# Altium footprint library Capacitor_THT.PcbLib: 378 footprints (part 20 of 24)
Each footprint in its own frame and in the unit in brackets; x right, y up, seen from the top. Pads: shape width x height; smd on the part's side, far side on the other; paste and mask are expansions set on the pad; w line width, h text height; cw(c..) or ccw(c..) is an arc to the next point about the centre after c.
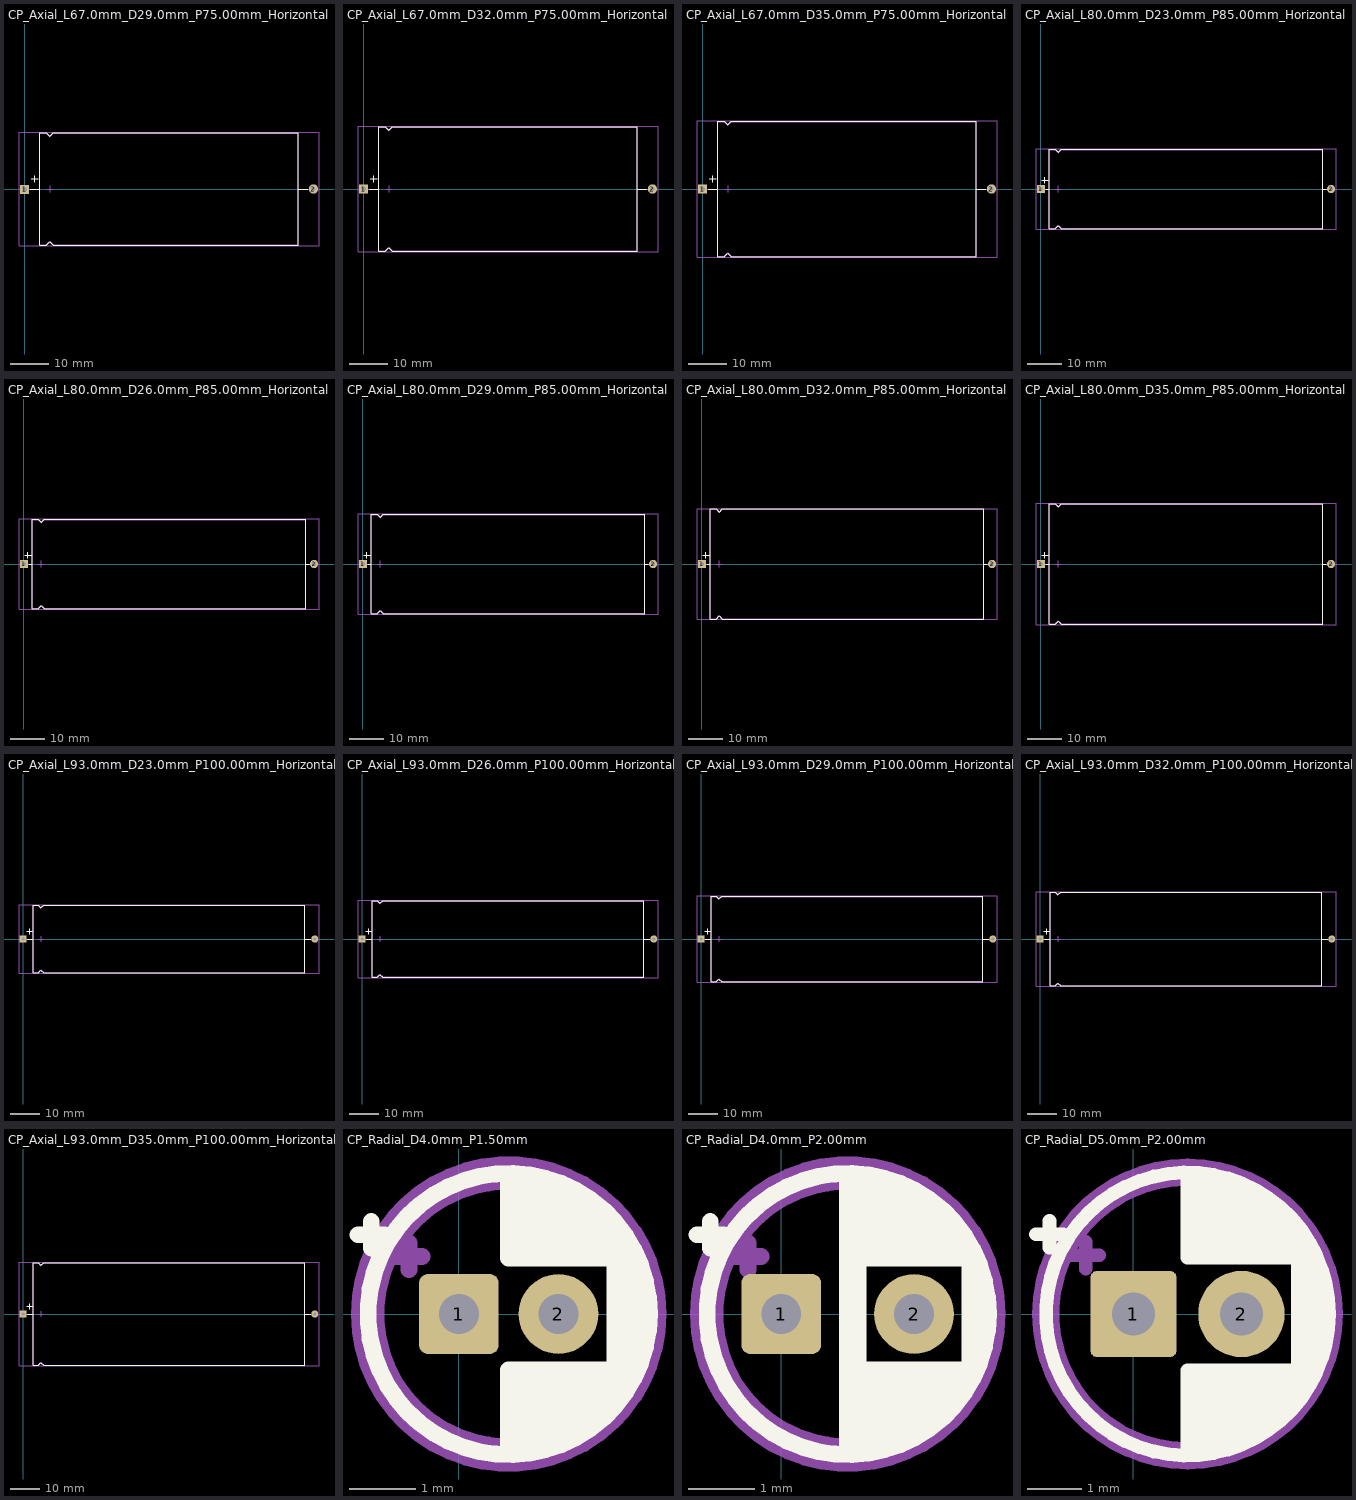
[diagram p19: the footprints below, top view; thin cyan lines are the x and y axes]

## CP_Axial_L67.0mm_D29.0mm_P75.00mm_Horizontal [mm] "CP_Axial_L67.0mm_D29.0mm_P75.00mm_Horizontal"
pads (2):
  rrect10% 2.4x2.4 hole 1.2: 1(0,-0.127)
  round 2.4 hole 1.2: 2(75,0)
F.SilkS:
  lines w0.254: 1.44,0 3.88,0 ; 1.78,2.6 3.58,2.6 ; 2.68,1.7 2.68,3.5 ; 71.12,0 73.56,0 ; 3.88,-14.62 3.88,14.62 5.68,14.62 6.58,13.72 7.48,14.62 71.12,14.62 71.12,-14.62 7.48,-14.62 6.58,-13.72 5.68,-14.62 3.88,-14.62
Top Component Center:
  lines w0.127: -0.127,0 0.127,0 ; 0,-0.127 0,0.127
Top Assembly:
  lines w0.254: 0,0 4,0 ; 5.7,0 7.5,0 ; 6.6,-0.9 6.6,0.9 ; 71,0 75,0 ; 4,-14.5 4,14.5 5.68,14.5 6.58,13.6 7.48,14.5 71,14.5 71,-14.5 7.48,-14.5 6.58,-13.6 5.68,-14.5 4,-14.5
Top Courtyard:
  lines w0.254: -1.45,-14.75 -1.45,14.75 76.45,14.75 76.45,-14.75 -1.45,-14.75
Top Designator:
  text ".Designator" at 35.428,-0.472 h1.52
3D body "CP_Axial_L67.0mm_D29.0mm_P75.00mm_Horizontal.step": height 29.01, standoff -2, extent -0.447,-14.497 75.447,14.497

## CP_Axial_L67.0mm_D32.0mm_P75.00mm_Horizontal [mm] "CP_Axial_L67.0mm_D32.0mm_P75.00mm_Horizontal"
pads (2):
  rrect10% 2.4x2.4 hole 1.2: 1(0,0)
  round 2.4 hole 1.2: 2(75,0)
F.SilkS:
  lines w0.254: 1.44,0 3.88,0 ; 1.78,2.6 3.58,2.6 ; 2.68,1.7 2.68,3.5 ; 71.12,0 73.56,0 ; 3.88,-16.12 3.88,16.12 5.68,16.12 6.58,15.22 7.48,16.12 71.12,16.12 71.12,-16.12 7.48,-16.12 6.58,-15.22 5.68,-16.12 3.88,-16.12
Top Component Center:
  lines w0.127: -0.127,0 0.127,0 ; 0,-0.127 0,0.127
Top Assembly:
  lines w0.254: 0,0 4,0 ; 5.7,0 7.5,0 ; 6.6,-0.9 6.6,0.9 ; 71,0 75,0 ; 4,-16 4,16 5.68,16 6.58,15.1 7.48,16 71,16 71,-16 7.48,-16 6.58,-15.1 5.68,-16 4,-16
Top Courtyard:
  lines w0.254: -1.45,-16.25 -1.45,16.25 76.45,16.25 76.45,-16.25 -1.45,-16.25
Top Designator:
  text ".Designator" at 32.126,0.036 h1.52
3D body "CP_Axial_L67.0mm_D32.0mm_P75.00mm_Horizontal.step": height 32.01, standoff -2, extent -0.447,-15.997 75.447,16

## CP_Axial_L67.0mm_D35.0mm_P75.00mm_Horizontal [mm] "CP_Axial_L67.0mm_D35.0mm_P75.00mm_Horizontal"
pads (2):
  rrect10% 2.4x2.4 hole 1.2: 1(0,0)
  round 2.4 hole 1.2: 2(75,0)
F.SilkS:
  lines w0.254: 1.44,0 3.88,0 ; 1.78,2.6 3.58,2.6 ; 2.68,1.7 2.68,3.5 ; 71.12,0 73.56,0 ; 3.88,-17.62 3.88,17.62 5.68,17.62 6.58,16.72 7.48,17.62 71.12,17.62 71.12,-17.62 7.48,-17.62 6.58,-16.72 5.68,-17.62 3.88,-17.62
Top Component Center:
  lines w0.127: -0.127,0 0.127,0 ; 0,-0.127 0,0.127
Top Assembly:
  lines w0.254: 0,0 4,0 ; 5.7,0 7.5,0 ; 6.6,-0.9 6.6,0.9 ; 71,0 75,0 ; 4,-17.5 4,17.5 5.68,17.5 6.58,16.6 7.48,17.5 71,17.5 71,-17.5 7.48,-17.5 6.58,-16.6 5.68,-17.5 4,-17.5
Top Courtyard:
  lines w0.254: -1.45,-17.75 -1.45,17.75 76.45,17.75 76.45,-17.75 -1.45,-17.75
Top Designator:
  text ".Designator" at 35.174,-0.345 h1.52
3D body "CP_Axial_L67.0mm_D35.0mm_P75.00mm_Horizontal.step": height 35.01, standoff -2, extent -0.447,-17.5 75.447,17.5

## CP_Axial_L80.0mm_D23.0mm_P85.00mm_Horizontal [mm] "CP_Axial_L80.0mm_D23.0mm_P85.00mm_Horizontal"
pads (2):
  rrect10% 2.4x2.4 hole 1.2: 1(0,0)
  round 2.4 hole 1.2: 2(85,0)
F.SilkS:
  lines w0.254: 0.28,2.6 2.08,2.6 ; 1.18,1.7 1.18,3.5 ; 1.44,0 2.38,0 ; 82.62,0 83.56,0 ; 2.38,-11.62 2.38,11.62 4.18,11.62 5.08,10.72 5.98,11.62 82.62,11.62 82.62,-11.62 5.98,-11.62 5.08,-10.72 4.18,-11.62 2.38,-11.62
Top Component Center:
  lines w0.127: -0.127,0 0.127,0 ; 0,-0.127 0,0.127
Top Assembly:
  lines w0.254: 0,0 2.5,0 ; 4.2,0 6,0 ; 5.1,-0.9 5.1,0.9 ; 82.5,0 85,0 ; 2.5,-11.5 2.5,11.5 4.18,11.5 5.08,10.6 5.98,11.5 82.5,11.5 82.5,-11.5 5.98,-11.5 5.08,-10.6 4.18,-11.5 2.5,-11.5
Top Courtyard:
  lines w0.254: -1.45,-11.75 -1.45,11.75 86.45,11.75 86.45,-11.75 -1.45,-11.75
Top Designator:
  text ".Designator" at 38.857,-0.091 h1.52
3D body "CP_Axial_L80.0mm_D23.0mm_P85.00mm_Horizontal.step": height 23.01, standoff -2, extent -0.447,-11.497 85.447,11.497

## CP_Axial_L80.0mm_D26.0mm_P85.00mm_Horizontal [mm] "CP_Axial_L80.0mm_D26.0mm_P85.00mm_Horizontal"
pads (2):
  rrect10% 2.4x2.4 hole 1.2: 1(0,0)
  round 2.4 hole 1.2: 2(85,0)
F.SilkS:
  lines w0.254: 0.28,2.6 2.08,2.6 ; 1.18,1.7 1.18,3.5 ; 1.44,0 2.38,0 ; 82.62,0 83.56,0 ; 2.38,-13.12 2.38,13.12 4.18,13.12 5.08,12.22 5.98,13.12 82.62,13.12 82.62,-13.12 5.98,-13.12 5.08,-12.22 4.18,-13.12 2.38,-13.12
Top Component Center:
  lines w0.127: -0.127,0 0.127,0 ; 0,-0.127 0,0.127
Top Assembly:
  lines w0.254: 0,0 2.5,0 ; 4.2,0 6,0 ; 5.1,-0.9 5.1,0.9 ; 82.5,0 85,0 ; 2.5,-13 2.5,13 4.18,13 5.08,12.1 5.98,13 82.5,13 82.5,-13 5.98,-13 5.08,-12.1 4.18,-13 2.5,-13
Top Courtyard:
  lines w0.254: -1.45,-13.25 -1.45,13.25 86.45,13.25 86.45,-13.25 -1.45,-13.25
Top Designator:
  text ".Designator" at 39.746,-0.472 h1.52
3D body "CP_Axial_L80.0mm_D26.0mm_P85.00mm_Horizontal.step": height 26.01, standoff -2, extent -0.447,-13 85.447,12.986

## CP_Axial_L80.0mm_D29.0mm_P85.00mm_Horizontal [mm] "CP_Axial_L80.0mm_D29.0mm_P85.00mm_Horizontal"
pads (2):
  rrect10% 2.4x2.4 hole 1.2: 1(0,0)
  round 2.4 hole 1.2: 2(85,0)
F.SilkS:
  lines w0.254: 0.28,2.6 2.08,2.6 ; 1.18,1.7 1.18,3.5 ; 1.44,0 2.38,0 ; 82.62,0 83.56,0 ; 2.38,-14.62 2.38,14.62 4.18,14.62 5.08,13.72 5.98,14.62 82.62,14.62 82.62,-14.62 5.98,-14.62 5.08,-13.72 4.18,-14.62 2.38,-14.62
Top Component Center:
  lines w0.127: -0.127,0 0.127,0 ; 0,-0.127 0,0.127
Top Assembly:
  lines w0.254: 0,0 2.5,0 ; 4.2,0 6,0 ; 5.1,-0.9 5.1,0.9 ; 82.5,0 85,0 ; 2.5,-14.5 2.5,14.5 4.18,14.5 5.08,13.6 5.98,14.5 82.5,14.5 82.5,-14.5 5.98,-14.5 5.08,-13.6 4.18,-14.5 2.5,-14.5
Top Courtyard:
  lines w0.254: -1.45,-14.75 -1.45,14.75 86.45,14.75 86.45,-14.75 -1.45,-14.75
Top Designator:
  text ".Designator" at 42.794,0.163 h1.52
3D body "CP_Axial_L80.0mm_D29.0mm_P85.00mm_Horizontal.step": height 29.01, standoff -2, extent -0.447,-14.486 85.447,14.5

## CP_Axial_L80.0mm_D32.0mm_P85.00mm_Horizontal [mm] "CP_Axial_L80.0mm_D32.0mm_P85.00mm_Horizontal"
pads (2):
  rrect10% 2.4x2.4 hole 1.2: 1(0,0)
  round 2.4 hole 1.2: 2(85,0)
F.SilkS:
  lines w0.254: 0.28,2.6 2.08,2.6 ; 1.18,1.7 1.18,3.5 ; 1.44,0 2.38,0 ; 82.62,0 83.56,0 ; 2.38,-16.12 2.38,16.12 4.18,16.12 5.08,15.22 5.98,16.12 82.62,16.12 82.62,-16.12 5.98,-16.12 5.08,-15.22 4.18,-16.12 2.38,-16.12
Top Component Center:
  lines w0.127: -0.127,0 0.127,0 ; 0,-0.127 0,0.127
Top Assembly:
  lines w0.254: 0,0 2.5,0 ; 4.2,0 6,0 ; 5.1,-0.9 5.1,0.9 ; 82.5,0 85,0 ; 2.5,-16 2.5,16 4.18,16 5.08,15.1 5.98,16 82.5,16 82.5,-16 5.98,-16 5.08,-15.1 4.18,-16 2.5,-16
Top Courtyard:
  lines w0.254: -1.45,-16.25 -1.45,16.25 86.45,16.25 86.45,-16.25 -1.45,-16.25
Top Designator:
  text ".Designator" at 40.508,-0.472 h1.52
3D body "CP_Axial_L80.0mm_D32.0mm_P85.00mm_Horizontal.step": height 32.01, standoff -2, extent -0.447,-15.997 85.447,15.997

## CP_Axial_L80.0mm_D35.0mm_P85.00mm_Horizontal [mm] "CP_Axial_L80.0mm_D35.0mm_P85.00mm_Horizontal"
pads (2):
  rrect10% 2.4x2.4 hole 1.2: 1(0,0)
  round 2.4 hole 1.2: 2(85,0)
F.SilkS:
  lines w0.254: 0.28,2.6 2.08,2.6 ; 1.18,1.7 1.18,3.5 ; 1.44,0 2.38,0 ; 82.62,0 83.56,0 ; 2.38,-17.62 4.18,-17.62 5.08,-16.72 5.98,-17.62 82.62,-17.62 82.62,17.62 5.98,17.62 5.08,16.72 4.18,17.62 2.38,17.62 2.38,-17.62
Top Component Center:
  lines w0.127: -0.127,0 0.127,0 ; 0,-0.127 0,0.127
Top Assembly:
  lines w0.254: 0,0 2.5,0 ; 4.2,0 6,0 ; 5.1,-0.9 5.1,0.9 ; 82.5,0 85,0 ; 2.5,-17.5 4.18,-17.5 5.08,-16.6 5.98,-17.5 82.5,-17.5 82.5,17.5 5.98,17.5 5.08,16.6 4.18,17.5 2.5,17.5 2.5,-17.5
Top Courtyard:
  lines w0.254: -1.45,-17.75 86.45,-17.75 86.45,17.75 -1.45,17.75 -1.45,-17.75
Top Designator:
  text ".Designator" at 41.651,-0.218 h1.52
3D body "CP_Axial_L80.0mm_D35.0mm_P85.00mm_Horizontal.step": height 35.01, standoff -2, extent -0.447,-17.482 85.447,17.498

## CP_Axial_L93.0mm_D23.0mm_P100.00mm_Horizontal [mm] "CP_Axial_L93.0mm_D23.0mm_P100.00mm_Horizontal"
pads (2):
  rrect10% 2.4x2.4 hole 1.2: 1(0,0)
  round 2.4 hole 1.2: 2(100,0)
F.SilkS:
  lines w0.254: 1.28,2.6 3.08,2.6 ; 1.44,0 3.38,0 ; 2.18,1.7 2.18,3.5 ; 96.62,0 98.56,0 ; 3.38,-11.62 5.18,-11.62 6.08,-10.72 6.98,-11.62 96.62,-11.62 96.62,11.62 6.98,11.62 6.08,10.72 5.18,11.62 3.38,11.62 3.38,-11.62
Top Component Center:
  lines w0.127: -0.127,0 0.127,0 ; 0,-0.127 0,0.127
Top Assembly:
  lines w0.254: 0,0 3.5,0 ; 5.2,0 7,0 ; 6.1,-0.9 6.1,0.9 ; 96.5,0 100,0 ; 3.5,-11.5 5.18,-11.5 6.08,-10.6 6.98,-11.5 96.5,-11.5 96.5,11.5 6.98,11.5 6.08,10.6 5.18,11.5 3.5,11.5 3.5,-11.5
Top Courtyard:
  lines w0.254: -1.45,-11.75 101.45,-11.75 101.45,11.75 -1.45,11.75 -1.45,-11.75
Top Designator:
  text ".Designator" at 46.985,-0.091 h1.52
3D body "CP_Axial_L93.0mm_D23.0mm_P100.00mm_Horizontal.step": height 23.01, standoff -2, extent -0.447,-11.475 100.447,11.465

## CP_Axial_L93.0mm_D26.0mm_P100.00mm_Horizontal [mm] "CP_Axial_L93.0mm_D26.0mm_P100.00mm_Horizontal"
pads (2):
  rrect10% 2.4x2.4 hole 1.2: 1(0,0)
  round 2.4 hole 1.2: 2(100,0)
F.SilkS:
  lines w0.254: 1.28,2.6 3.08,2.6 ; 1.44,0 3.38,0 ; 2.18,1.7 2.18,3.5 ; 96.62,0 98.56,0 ; 3.38,-13.12 5.18,-13.12 6.08,-12.22 6.98,-13.12 96.62,-13.12 96.62,13.12 6.98,13.12 6.08,12.22 5.18,13.12 3.38,13.12 3.38,-13.12
Top Component Center:
  lines w0.127: -0.127,0 0.127,0 ; 0,-0.127 0,0.127
Top Assembly:
  lines w0.254: 0,0 3.5,0 ; 5.2,0 7,0 ; 6.1,-0.9 6.1,0.9 ; 96.5,0 100,0 ; 3.5,-13 5.18,-13 6.08,-12.1 6.98,-13 96.5,-13 96.5,13 6.98,13 6.08,12.1 5.18,13 3.5,13 3.5,-13
Top Courtyard:
  lines w0.254: -1.45,-13.25 101.45,-13.25 101.45,13.25 -1.45,13.25 -1.45,-13.25
Top Designator:
  text ".Designator" at 58.542,-0.345 h1.52
3D body "CP_Axial_L93.0mm_D26.0mm_P100.00mm_Horizontal.step": height 26.01, standoff -2, extent -0.447,-12.998 100.447,12.999

## CP_Axial_L93.0mm_D29.0mm_P100.00mm_Horizontal [mm] "CP_Axial_L93.0mm_D29.0mm_P100.00mm_Horizontal"
pads (2):
  rrect10% 2.4x2.4 hole 1.2: 1(0,0)
  round 2.4 hole 1.2: 2(100,0)
F.SilkS:
  lines w0.254: 1.28,2.6 3.08,2.6 ; 1.44,0 3.38,0 ; 2.18,1.7 2.18,3.5 ; 96.62,0 98.56,0 ; 3.38,-14.62 5.18,-14.62 6.08,-13.72 6.98,-14.62 96.62,-14.62 96.62,14.62 6.98,14.62 6.08,13.72 5.18,14.62 3.38,14.62 3.38,-14.62
Top Component Center:
  lines w0.127: -0.127,0 0.127,0 ; 0,-0.127 0,0.127
Top Assembly:
  lines w0.254: 0,0 3.5,0 ; 5.2,0 7,0 ; 6.1,-0.9 6.1,0.9 ; 96.5,0 100,0 ; 3.5,-14.5 5.18,-14.5 6.08,-13.6 6.98,-14.5 96.5,-14.5 96.5,14.5 6.98,14.5 6.08,13.6 5.18,14.5 3.5,14.5 3.5,-14.5
Top Courtyard:
  lines w0.254: -1.45,-14.75 101.45,-14.75 101.45,14.75 -1.45,14.75 -1.45,-14.75
Top Designator:
  text ".Designator" at 45.207,-0.218 h1.52
3D body "CP_Axial_L93.0mm_D29.0mm_P100.00mm_Horizontal.step": height 29.01, standoff -2, extent -0.447,-14.499 100.447,14.499

## CP_Axial_L93.0mm_D32.0mm_P100.00mm_Horizontal [mm] "CP_Axial_L93.0mm_D32.0mm_P100.00mm_Horizontal"
pads (2):
  rrect10% 2.4x2.4 hole 1.2: 1(0,0)
  round 2.4 hole 1.2: 2(100,0)
F.SilkS:
  lines w0.254: 1.28,2.6 3.08,2.6 ; 1.44,0 3.38,0 ; 2.18,1.7 2.18,3.5 ; 96.62,0 98.56,0 ; 3.38,-16.12 3.38,16.12 5.18,16.12 6.08,15.22 6.98,16.12 96.62,16.12 96.62,-16.12 6.98,-16.12 6.08,-15.22 5.18,-16.12 3.38,-16.12
Top Component Center:
  lines w0.127: -0.127,0 0.127,0 ; 0,-0.127 0,0.127
Top Assembly:
  lines w0.254: 0,0 3.5,0 ; 5.2,0 7,0 ; 6.1,-0.9 6.1,0.9 ; 96.5,0 100,0 ; 3.5,-16 3.5,16 5.18,16 6.08,15.1 6.98,16 96.5,16 96.5,-16 6.98,-16 6.08,-15.1 5.18,-16 3.5,-16
Top Courtyard:
  lines w0.254: -1.45,-16.25 -1.45,16.25 101.45,16.25 101.45,-16.25 -1.45,-16.25
Top Designator:
  text ".Designator" at 47.112,-0.091 h1.52
3D body "CP_Axial_L93.0mm_D32.0mm_P100.00mm_Horizontal.step": height 32.01, standoff -2, extent -0.447,-15.966 100.447,15.993

## CP_Axial_L93.0mm_D35.0mm_P100.00mm_Horizontal [mm] "CP_Axial_L93.0mm_D35.0mm_P100.00mm_Horizontal"
pads (2):
  rrect10% 2.4x2.4 hole 1.2: 1(0,0)
  round 2.4 hole 1.2: 2(100,0)
F.SilkS:
  lines w0.254: 1.28,2.6 3.08,2.6 ; 1.44,0 3.38,0 ; 2.18,1.7 2.18,3.5 ; 96.62,0 98.56,0 ; 3.38,-17.62 5.18,-17.62 6.08,-16.72 6.98,-17.62 96.62,-17.62 96.62,17.62 6.98,17.62 6.08,16.72 5.18,17.62 3.38,17.62 3.38,-17.62
Top Component Center:
  lines w0.127: -0.127,0 0.127,0 ; 0,-0.127 0,0.127
Top Assembly:
  lines w0.254: 0,0 3.5,0 ; 5.2,0 7,0 ; 6.1,-0.9 6.1,0.9 ; 96.5,0 100,0 ; 3.5,-17.5 5.18,-17.5 6.08,-16.6 6.98,-17.5 96.5,-17.5 96.5,17.5 6.98,17.5 6.08,16.6 5.18,17.5 3.5,17.5 3.5,-17.5
Top Courtyard:
  lines w0.254: -1.45,-17.75 101.45,-17.75 101.45,17.75 -1.45,17.75 -1.45,-17.75
Top Designator:
  text ".Designator" at 47.747,-0.472 h1.52
3D body "CP_Axial_L93.0mm_D35.0mm_P100.00mm_Horizontal.step": height 35.01, standoff -2, extent -0.447,-17.499 100.447,17.499

## CP_Radial_D4.0mm_P1.50mm [mm] "CP_Radial_D4.0mm_P1.50mm"
pads (2):
  rrect21% 1.2x1.2 hole 0.6: 1(0,0)
  round 1.2 hole 0.6: 2(1.5,0)
F.SilkS:
  circle w0.254: c0.75,0 r2.12
  lines w0.254: -1.52,1.195 -1.12,1.195 ; -1.32,0.995 -1.32,1.395 ; 0.75,-2.08 0.75,-0.84 ; 0.75,0.84 0.75,2.08 ; 0.79,-2.08 0.79,-0.84 ; 0.79,0.84 0.79,2.08 ; 0.83,-2.078 0.83,-0.84 ; 0.83,0.84 0.83,2.078 ; 0.87,-2.077 0.87,-0.84 ; 0.87,0.84 0.87,2.077 ; 0.91,-2.074 0.91,-0.84 ; 0.91,0.84 0.91,2.074 ; 0.95,-2.071 0.95,-0.84 ; 0.95,0.84 0.95,2.071 ; 0.99,-2.066 0.99,-0.84 ; 0.99,0.84 0.99,2.066 ; 1.03,-2.061 1.03,-0.84 ; 1.03,0.84 1.03,2.061 ; 1.07,-2.056 1.07,-0.84 ; 1.07,0.84 1.07,2.056 ; 1.11,-2.049 1.11,-0.84 ; 1.11,0.84 1.11,2.049 ; 1.15,-2.042 1.15,-0.84 ; 1.15,0.84 1.15,2.042 ; 1.19,-2.034 1.19,-0.84 ; 1.19,0.84 1.19,2.034 ; 1.23,-2.025 1.23,-0.84 ; 1.23,0.84 1.23,2.025 ; 1.27,-2.015 1.27,-0.84 ; 1.27,0.84 1.27,2.015 ; 1.31,-2.005 1.31,-0.84 ; 1.31,0.84 1.31,2.005 ; 1.35,-1.993 1.35,-0.84 ; 1.35,0.84 1.35,1.993 ; 1.39,-1.981 1.39,-0.84 ; 1.39,0.84 1.39,1.981 ; 1.43,-1.968 1.43,-0.84 ; 1.43,0.84 1.43,1.968 ; 1.47,-1.954 1.47,-0.84 ; 1.47,0.84 1.47,1.954 ; 1.51,-1.939 1.51,-0.84 ; 1.51,0.84 1.51,1.939 ; 1.55,-1.923 1.55,-0.84 ; 1.55,0.84 1.55,1.923 ; 1.59,-1.906 1.59,-0.84 ; 1.59,0.84 1.59,1.906 ; 1.63,-1.889 1.63,-0.84 ; 1.63,0.84 1.63,1.889 ; 1.67,-1.87 1.67,-0.84 ; 1.67,0.84 1.67,1.87 ; 1.71,-1.85 1.71,-0.84 ; 1.71,0.84 1.71,1.85 ; 1.75,-1.829 1.75,-0.84 ; 1.75,0.84 1.75,1.829 ; 1.79,-1.807 1.79,-0.84 ; 1.79,0.84 1.79,1.807 ; 1.83,-1.784 1.83,-0.84 ; 1.83,0.84 1.83,1.784 ; 1.87,-1.76 1.87,-0.84 ; 1.87,0.84 1.87,1.76 ; 1.91,-1.734 1.91,-0.84 ; 1.91,0.84 1.91,1.734 ; 1.95,-1.708 1.95,-0.84 ; 1.95,0.84 1.95,1.708 ; 1.99,-1.68 1.99,-0.84 ; 1.99,0.84 1.99,1.68 ; 2.03,-1.65 2.03,-0.84 ; 2.03,0.84 2.03,1.65 ; 2.07,-1.619 2.07,-0.84 ; 2.07,0.84 2.07,1.619 ; 2.11,-1.586 2.11,-0.84 ; 2.11,0.84 2.11,1.586 ; 2.15,-1.552 2.15,-0.84 ; 2.15,0.84 2.15,1.552 ; 2.19,-1.516 2.19,-0.84 ; 2.19,0.84 2.19,1.516 ; 2.23,-1.478 2.23,-0.84 ; 2.23,0.84 2.23,1.478 ; 2.27,-1.438 2.27,-0.84 ; 2.27,0.84 2.27,1.438 ; 2.31,-1.396 2.31,-0.84 ; 2.31,0.84 2.31,1.396 ; 2.35,-1.351 2.35,1.351 ; 2.39,-1.303 2.39,1.303 ; 2.43,-1.253 2.43,1.253 ; 2.47,-1.199 2.47,1.199 ; 2.51,-1.142 2.51,1.142 ; 2.55,-1.08 2.55,1.08 ; 2.59,-1.013 2.59,1.013 ; 2.63,-0.94 2.63,0.94 ; 2.67,-0.859 2.67,0.859 ; 2.71,-0.768 2.71,0.768 ; 2.75,-0.663 2.75,0.663 ; 2.79,-0.537 2.79,0.537 ; 2.83,-0.37 2.83,0.37
Top Component Center:
  lines w0.127: -0.127,0 0.127,0 ; 0,-0.127 0,0.127
Top Assembly:
  circle w0.254: c0.75,0 r2
  lines w0.254: -0.953,0.867 -0.553,0.867 ; -0.753,0.667 -0.753,1.068
Top Courtyard:
  circle w0.254: c0.75,0 r2.25
Top Designator:
  text ".Designator" at -0.226,2.252 h1
3D body "CP_Radial_D4.0mm_P1.50mm.step": height 4, standoff -2, extent -1.245,-1.994 2.75,1.994

## CP_Radial_D4.0mm_P2.00mm [mm] "CP_Radial_D4.0mm_P2.00mm"
pads (2):
  rrect21% 1.2x1.2 hole 0.6: 1(0,0)
  round 1.2 hole 0.6: 2(2,0)
F.SilkS:
  circle w0.254: c1,0 r2.12
  lines w0.254: -1.27,1.195 -0.87,1.195 ; -1.07,0.995 -1.07,1.395 ; 1,-2.08 1,2.08 ; 1.04,-2.08 1.04,2.08 ; 1.08,-2.078 1.08,2.078 ; 1.12,-2.077 1.12,2.077 ; 1.16,-2.074 1.16,2.074 ; 1.2,-2.071 1.2,-0.84 ; 1.2,0.84 1.2,2.071 ; 1.24,-2.066 1.24,-0.84 ; 1.24,0.84 1.24,2.066 ; 1.28,-2.061 1.28,-0.84 ; 1.28,0.84 1.28,2.061 ; 1.32,-2.056 1.32,-0.84 ; 1.32,0.84 1.32,2.056 ; 1.36,-2.049 1.36,-0.84 ; 1.36,0.84 1.36,2.049 ; 1.4,-2.042 1.4,-0.84 ; 1.4,0.84 1.4,2.042 ; 1.44,-2.034 1.44,-0.84 ; 1.44,0.84 1.44,2.034 ; 1.48,-2.025 1.48,-0.84 ; 1.48,0.84 1.48,2.025 ; 1.52,-2.015 1.52,-0.84 ; 1.52,0.84 1.52,2.015 ; 1.56,-2.005 1.56,-0.84 ; 1.56,0.84 1.56,2.005 ; 1.6,-1.993 1.6,-0.84 ; 1.6,0.84 1.6,1.993 ; 1.64,-1.981 1.64,-0.84 ; 1.64,0.84 1.64,1.981 ; 1.68,-1.968 1.68,-0.84 ; 1.68,0.84 1.68,1.968 ; 1.72,-1.954 1.72,-0.84 ; 1.72,0.84 1.72,1.954 ; 1.76,-1.939 1.76,-0.84 ; 1.76,0.84 1.76,1.939 ; 1.8,-1.923 1.8,-0.84 ; 1.8,0.84 1.8,1.923 ; 1.84,-1.906 1.84,-0.84 ; 1.84,0.84 1.84,1.906 ; 1.88,-1.889 1.88,-0.84 ; 1.88,0.84 1.88,1.889 ; 1.92,-1.87 1.92,-0.84 ; 1.92,0.84 1.92,1.87 ; 1.96,-1.85 1.96,-0.84 ; 1.96,0.84 1.96,1.85 ; 2,-1.829 2,-0.84 ; 2,0.84 2,1.829 ; 2.04,-1.807 2.04,-0.84 ; 2.04,0.84 2.04,1.807 ; 2.08,-1.784 2.08,-0.84 ; 2.08,0.84 2.08,1.784 ; 2.12,-1.76 2.12,-0.84 ; 2.12,0.84 2.12,1.76 ; 2.16,-1.734 2.16,-0.84 ; 2.16,0.84 2.16,1.734 ; 2.2,-1.708 2.2,-0.84 ; 2.2,0.84 2.2,1.708 ; 2.24,-1.68 2.24,-0.84 ; 2.24,0.84 2.24,1.68 ; 2.28,-1.65 2.28,-0.84 ; 2.28,0.84 2.28,1.65 ; 2.32,-1.619 2.32,-0.84 ; 2.32,0.84 2.32,1.619 ; 2.36,-1.586 2.36,-0.84 ; 2.36,0.84 2.36,1.586 ; 2.4,-1.552 2.4,-0.84 ; 2.4,0.84 2.4,1.552 ; 2.44,-1.516 2.44,-0.84 ; 2.44,0.84 2.44,1.516 ; 2.48,-1.478 2.48,-0.84 ; 2.48,0.84 2.48,1.478 ; 2.52,-1.438 2.52,-0.84 ; 2.52,0.84 2.52,1.438 ; 2.56,-1.396 2.56,-0.84 ; 2.56,0.84 2.56,1.396 ; 2.6,-1.351 2.6,-0.84 ; 2.6,0.84 2.6,1.351 ; 2.64,-1.303 2.64,-0.84 ; 2.64,0.84 2.64,1.303 ; 2.68,-1.253 2.68,-0.84 ; 2.68,0.84 2.68,1.253 ; 2.72,-1.199 2.72,-0.84 ; 2.72,0.84 2.72,1.199 ; 2.76,-1.142 2.76,-0.84 ; 2.76,0.84 2.76,1.142 ; 2.8,-1.08 2.8,-0.84 ; 2.8,0.84 2.8,1.08 ; 2.84,-1.013 2.84,1.013 ; 2.88,-0.94 2.88,0.94 ; 2.92,-0.859 2.92,0.859 ; 2.96,-0.768 2.96,0.768 ; 3,-0.663 3,0.663 ; 3.04,-0.537 3.04,0.537 ; 3.08,-0.37 3.08,0.37
Top Component Center:
  lines w0.127: -0.127,0 0.127,0 ; 0,-0.127 0,0.127
Top Assembly:
  circle w0.254: c1,0 r2
  lines w0.254: -0.703,0.867 -0.303,0.867 ; -0.503,0.667 -0.503,1.068
Top Courtyard:
  circle w0.254: c1,0 r2.25
Top Designator:
  text ".Designator" at 0.226,-2.252 h1
3D body "CP_Radial_D4.0mm_P2.00mm.step": height 4, standoff -2, extent -0.995,-1.994 3,1.994

## CP_Radial_D5.0mm_P2.00mm [mm] "CP_Radial_D5.0mm_P2.00mm"
pads (2):
  rrect16% 1.6x1.6 hole 0.8: 1(0,0)
  round 1.6 hole 0.8: 2(2,0)
F.SilkS:
  circle w0.254: c1,0 r2.62
  lines w0.254: -1.805,1.475 -1.305,1.475 ; -1.555,1.225 -1.555,1.725 ; 1,-2.58 1,-1.04 ; 1,1.04 1,2.58 ; 1.04,-2.58 1.04,-1.04 ; 1.04,1.04 1.04,2.58 ; 1.08,-2.579 1.08,-1.04 ; 1.08,1.04 1.08,2.579 ; 1.12,-2.577 1.12,-1.04 ; 1.12,1.04 1.12,2.577 ; 1.16,-2.575 1.16,-1.04 ; 1.16,1.04 1.16,2.575 ; 1.2,-2.572 1.2,-1.04 ; 1.2,1.04 1.2,2.572 ; 1.24,-2.569 1.24,-1.04 ; 1.24,1.04 1.24,2.569 ; 1.28,-2.565 1.28,-1.04 ; 1.28,1.04 1.28,2.565 ; 1.32,-2.56 1.32,-1.04 ; 1.32,1.04 1.32,2.56 ; 1.36,-2.555 1.36,-1.04 ; 1.36,1.04 1.36,2.555 ; 1.4,-2.549 1.4,-1.04 ; 1.4,1.04 1.4,2.549 ; 1.44,-2.543 1.44,-1.04 ; 1.44,1.04 1.44,2.543 ; 1.48,-2.536 1.48,-1.04 ; 1.48,1.04 1.48,2.536 ; 1.52,-2.528 1.52,-1.04 ; 1.52,1.04 1.52,2.528 ; 1.56,-2.519 1.56,-1.04 ; 1.56,1.04 1.56,2.519 ; 1.6,-2.51 1.6,-1.04 ; 1.6,1.04 1.6,2.51 ; 1.64,-2.501 1.64,-1.04 ; 1.64,1.04 1.64,2.501 ; 1.68,-2.49 1.68,-1.04 ; 1.68,1.04 1.68,2.49 ; 1.72,-2.479 1.72,-1.04 ; 1.72,1.04 1.72,2.479 ; 1.76,-2.467 1.76,-1.04 ; 1.76,1.04 1.76,2.467 ; 1.8,-2.455 1.8,-1.04 ; 1.8,1.04 1.8,2.455 ; 1.84,-2.442 1.84,-1.04 ; 1.84,1.04 1.84,2.442 ; 1.88,-2.428 1.88,-1.04 ; 1.88,1.04 1.88,2.428 ; 1.92,-2.413 1.92,-1.04 ; 1.92,1.04 1.92,2.413 ; 1.96,-2.398 1.96,-1.04 ; 1.96,1.04 1.96,2.398 ; 2,-2.382 2,-1.04 ; 2,1.04 2,2.382 ; 2.04,-2.365 2.04,-1.04 ; 2.04,1.04 2.04,2.365 ; 2.08,-2.347 2.08,-1.04 ; 2.08,1.04 2.08,2.347 ; 2.12,-2.329 2.12,-1.04 ; 2.12,1.04 2.12,2.329 ; 2.16,-2.309 2.16,-1.04 ; 2.16,1.04 2.16,2.309 ; 2.2,-2.289 2.2,-1.04 ; 2.2,1.04 2.2,2.289 ; 2.24,-2.268 2.24,-1.04 ; 2.24,1.04 2.24,2.268 ; 2.28,-2.246 2.28,-1.04 ; 2.28,1.04 2.28,2.246 ; 2.32,-2.223 2.32,-1.04 ; 2.32,1.04 2.32,2.223 ; 2.36,-2.199 2.36,-1.04 ; 2.36,1.04 2.36,2.199 ; 2.4,-2.175 2.4,-1.04 ; 2.4,1.04 2.4,2.175 ; 2.44,-2.149 2.44,-1.04 ; 2.44,1.04 2.44,2.149 ; 2.48,-2.122 2.48,-1.04 ; 2.48,1.04 2.48,2.122 ; 2.52,-2.094 2.52,-1.04 ; 2.52,1.04 2.52,2.094 ; 2.56,-2.065 2.56,-1.04 ; 2.56,1.04 2.56,2.065 ; 2.6,-2.035 2.6,-1.04 ; 2.6,1.04 2.6,2.035 ; 2.64,-2.003 2.64,-1.04 ; 2.64,1.04 2.64,2.003 ; 2.68,-1.97 2.68,-1.04 ; 2.68,1.04 2.68,1.97 ; 2.72,-1.936 2.72,-1.04 ; 2.72,1.04 2.72,1.936 ; 2.76,-1.901 2.76,-1.04 ; 2.76,1.04 2.76,1.901 ; 2.8,-1.864 2.8,-1.04 ; 2.8,1.04 2.8,1.864 ; 2.84,-1.825 2.84,-1.04 ; 2.84,1.04 2.84,1.825 ; 2.88,-1.785 2.88,-1.04 ; 2.88,1.04 2.88,1.785 ; 2.92,-1.743 2.92,-1.04 ; 2.92,1.04 2.92,1.743 ; 2.96,-1.699 2.96,-1.04 ; 2.96,1.04 2.96,1.699 ; 3,-1.652 3,-1.04 ; 3,1.04 3,1.652 ; 3.04,-1.604 3.04,1.604 ; 3.08,-1.553 3.08,1.553 ; 3.12,-1.499 3.12,1.499 ; 3.16,-1.443 3.16,1.443 ; 3.2,-1.383 3.2,1.383 ; 3.24,-1.319 3.24,1.319 ; 3.28,-1.251 3.28,1.251 ; 3.32,-1.177 3.32,1.177 ; 3.36,-1.098 3.36,1.098 ; 3.4,-1.011 3.4,1.011 ; 3.44,-0.914 3.44,0.914 ; 3.48,-0.805 3.48,0.805 ; 3.52,-0.677 3.52,0.677 ; 3.56,-0.517 3.56,0.517 ; 3.6,-0.283 3.6,0.283
Top Component Center:
  lines w0.127: -0.127,0 0.127,0 ; 0,-0.127 0,0.127
Top Assembly:
  circle w0.254: c1,0 r2.5
  lines w0.254: -1.134,1.088 -0.634,1.088 ; -0.884,0.837 -0.884,1.338
Top Courtyard:
  circle w0.254: c1,0 r2.75
Top Designator:
  text ".Designator" at 0.226,-2.252 h1